# EAGLE library part TLV320AIC3120_RHB_32 (library bone)
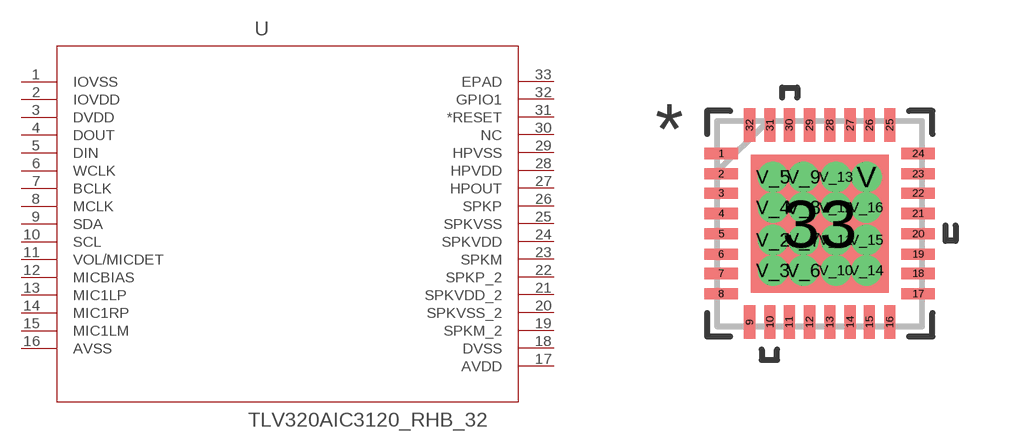
[diagram p0: symbol with the pads of RHB32_3P45X3P45; footprint RHB32_3P45X3P45]

Designator prefix U

## TLV320AIC3120_RHB_32 (DATASHEETURL: http://www.ti.com/lit/gpn/TLV320AIC3120; DESCRIPTION: Low-Power Audio CODEC With miniDSP and 2.5-W Mono Class-D Speaker Amplifier; FAMILY_NAME: Audio CODEC; GENERIC_PART_NUMBER: TLV320AIC3120; INDUSTRY_STD_PKG_TYPE: QFN; MANUFACTURER: Texas Instruments; MANUFACTURER_PART_NUMBER: tlv320aic3120_rhb_32; PACKAGE_DESIGNATOR: RHB; PIN_COUNT: 32; VENDOR: Texas Instruments)  [RHB32_3P45X3P45]
1  IOVSS  pwr
2  IOVDD  pwr
3  DVDD  pwr
4  DOUT  out
5  DIN  in
6  WCLK
7  BCLK
8  MCLK  in
9  SDA
10  SCL
11  VOL/MICDET  in
12  MICBIAS  out
13  MIC1LP  in
14  MIC1RP  in
15  MIC1LM  in
16  AVSS  pwr
17  AVDD  pwr
18  DVSS  pwr
19  SPKM_2  out
20  SPKVSS_2  pwr
21  SPKVDD_2  pwr
22  SPKP_2  out
23  SPKM  out
24  SPKVDD  pwr
25  SPKVSS  pwr
26  SPKP  out
27  HPOUT  out
28  HPVDD  pwr
29  HPVSS  pwr
30  NC  pas
31  *RESET  in
32  GPIO1
33  EPAD  pas

## Footprint RHB32_3P45X3P45 (pad centres in mm)
smd 0.838 x 0.279: 1 -2.464,1.753; 2 -2.464,1.245; 3 -2.464,0.762; 4 -2.464,0.254; 5 -2.464,-0.254; 6 -2.464,-0.762; 7 -2.464,-1.245; 8 -2.464,-1.753; 17 2.464,-1.753; 18 2.464,-1.245; 19 2.464,-0.762; 20 2.464,-0.254; 21 2.464,0.254; 22 2.464,0.762; 23 2.464,1.245; 24 2.464,1.753
smd 0.279 x 0.838: 9 -1.753,-2.464; 10 -1.245,-2.464; 11 -0.762,-2.464; 12 -0.254,-2.464; 13 0.254,-2.464; 14 0.762,-2.464; 15 1.245,-2.464; 16 1.753,-2.464; 25 1.753,2.464; 26 1.245,2.464; 27 0.762,2.464; 28 0.254,2.464; 29 -0.254,2.464; 30 -0.762,2.464; 31 -1.245,2.464; 32 -1.753,2.464
smd 3.454 x 3.454: 33 0,0
drill 0.254: V 1.168,1.168; V_2 -1.168,-0.406; V_3 -1.168,-1.168; V_4 -1.168,0.406; V_5 -1.168,1.168; V_6 -0.406,-1.168; V_7 -0.406,-0.406; V_8 -0.406,0.406; V_9 -0.406,1.168; V_10 0.406,-1.168; V_11 0.406,-0.406; V_12 0.406,0.406; V_13 0.406,1.168; V_14 1.168,-1.168; V_15 1.168,-0.406; V_16 1.168,0.406